# EAGLE library part MCP2551 (library mcp2551)
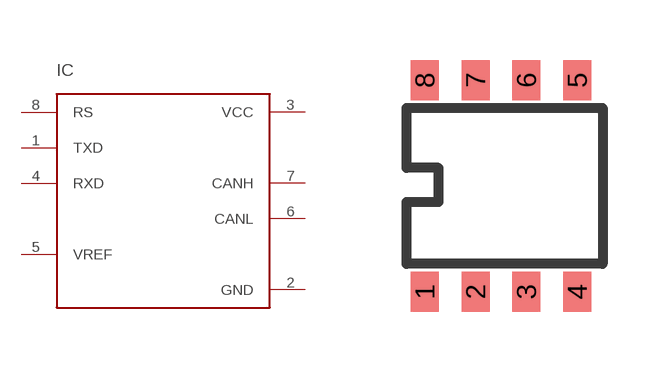
[diagram p0: symbol with the pads of TSSOP; footprint TSSOP]

Designator prefix IC

## MCP2551  [TSSOP]
1  TXD
2  GND  sup
3  VCC  sup
4  RXD
5  VREF
6  CANL
7  CANH
8  RS

## Footprint TSSOP (pad centres in mm)
smd 0.7 x 1: 1 -1.981,-2.645; 2 -0.711,-2.645; 3 0.559,-2.645; 4 1.829,-2.645; 5 1.829,2.645; 6 0.559,2.645; 7 -0.711,2.645; 8 -1.981,2.645